# Altium schematic symbol library Crystals.SchLib: 4 symbols
Pins are listed as number, name and electrical type; pins without a type are passive.

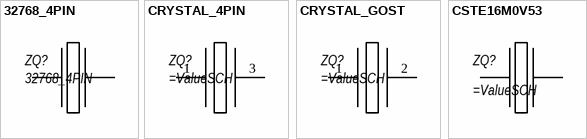
[diagram p0: symbols 32768_4PIN to CSTE16M0V53]

## 32768_4PIN
designator ZQ?
pins: 1, 4

## CRYSTAL_4PIN
designator ZQ?
pins: 1, 3

## CRYSTAL_GOST
designator ZQ?
pins: 1, 2

## CSTE16M0V53
designator ZQ?
CSTE16M0V53
footprint CSTE16M0V53
pins: 1, 2